# Altium footprint library LM317.PcbLib: 1 footprints
Each footprint in its own frame and in the unit in brackets; x right, y up, seen from the top. Pads: shape width x height; smd on the part's side, far side on the other; paste and mask are expansions set on the pad; w line width, h text height; cw(c..) or ccw(c..) is an arc to the next point about the centre after c.
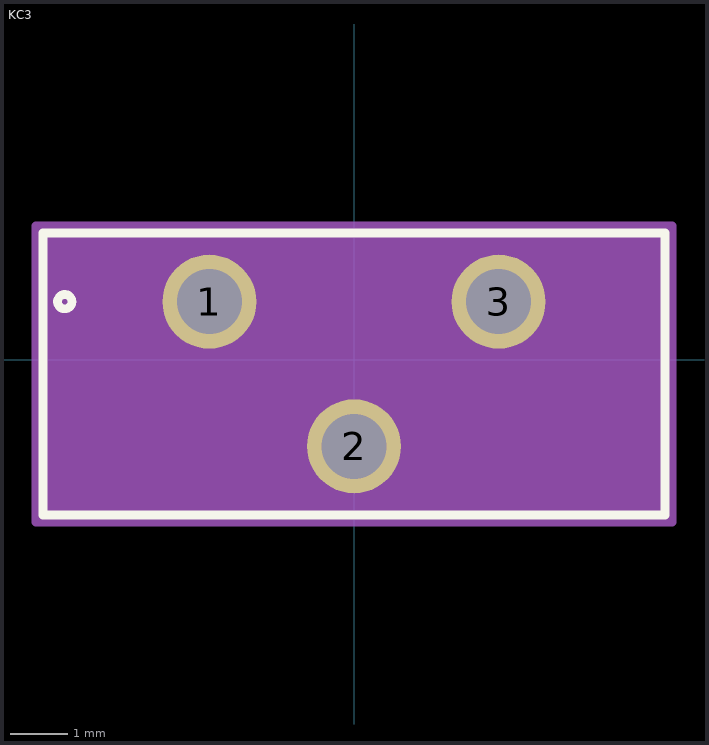
[diagram p0: the footprint, top view; thin cyan lines are the x and y axes]

## KC3 [mil]
pads (3):
  round 65 / inner round 60 / far side round 65 hole 45: 1(-100,40) 2(0,-60) 3(100,40)
Top Overlay:
  circle w6: c-200,40 r5
  lines w6: -215,-107.5 215,-107.5 215,87.5 -215,87.5 -215,-107.5
Mechanical 13:
  circle w0: c-200,40 r5
Mechanical 15:
  region: 220,92.5 -220,92.5 -220,-112.5 220,-112.5
  lines w6: -220,-112.5 -220,92.5 220,92.5 220,-112.5 -220,-112.5
3D body "KC3.stp": height 700, standoff -50, extent -209.99,-102.49 210.01,82.52